# Altium schematic symbol library Button Push TS-1109S-B-B.Schlib: 1 symbol
Pins are listed as number, name and electrical type; pins without a type are passive.

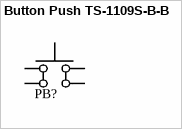
[diagram p0: symbol Button Push TS-1109S-B-B]

## Button Push TS-1109S-B-B
designator PB?, comment Button Push  (value not drawn)
LCSC Part #: C480315; ComponentLink1Description: LCSC - XKB Connectivity TS-1109S-B-B; ComponentLink1URL: https://lcsc.com/product-detail/Tactile-Switches_XKB-Connectivity-TS-1109S-B-B_C480315.html; JLCPCB Part Type: Extended
footprint Tactile Button 4.5*4.5
pins: 1, 2, 3, 4